# Altium integrated library BB Communication xDSL Interface.IntLib: 4 symbols
Pins are listed as number, name and electrical type; pins without a type are passive.

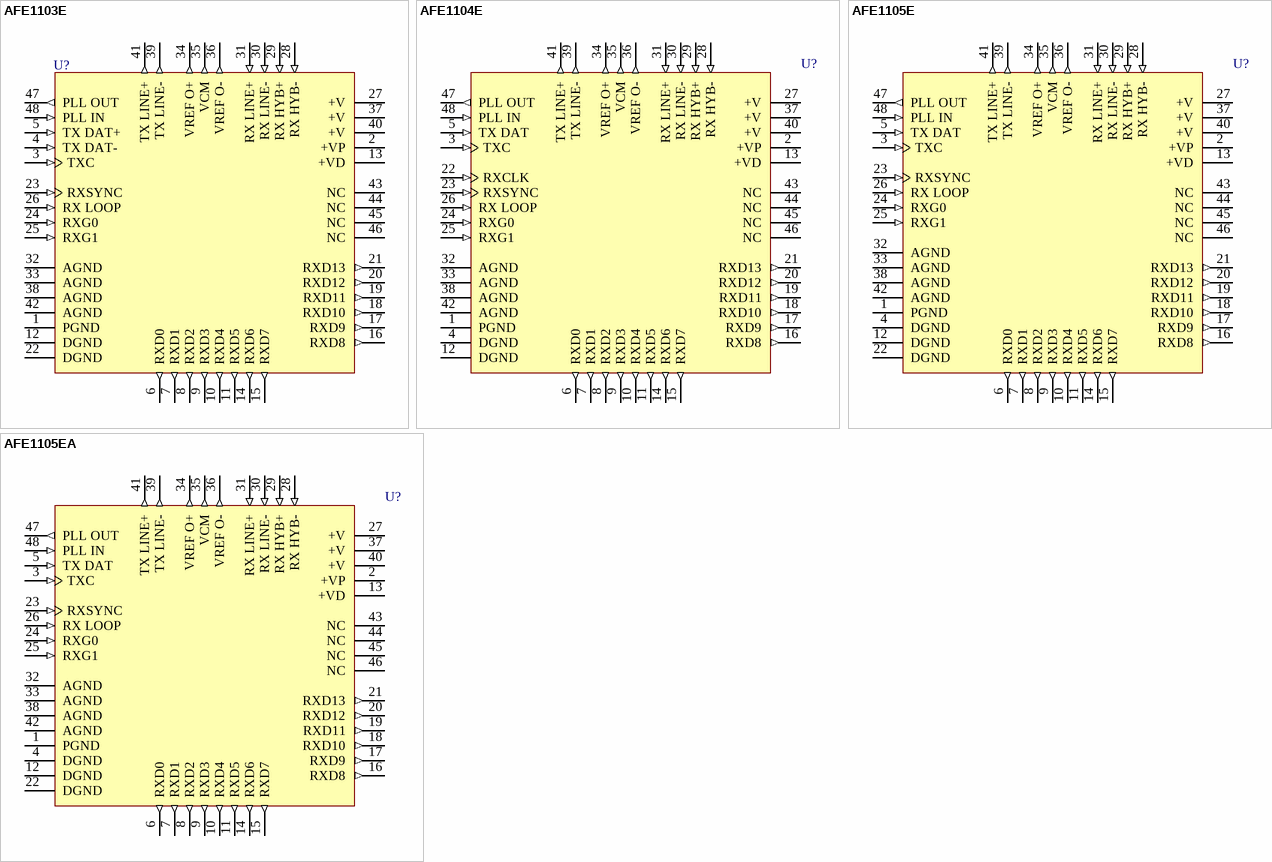
[diagram p0: symbols AFE1103E to AFE1105EA]

## AFE1103E
designator U?
HDSL/MDSL Analog Front End; Note: Pins 43 to 46 are No internal Connection (NC) pins and should be connected to ground; Published: 8-Jun-2000; LatestRevisionDate: 06-Jun-2005; LatestRevisionNote: Stylized 3D Model Added.; DatasheetVersion: Aug-1996; PackageReference: 333B; Publisher: Altium Limited; PackageDescription: SSOP; 48 Leads; Body Width 7.5 mm; Pitch 0.635 mm; Code_JEDEC: MO-118-AA; Code_IPC: SSO48; ComponentLink1Description: Manufacturer Link; ComponentLink1URL: http://www.ti.com/; ComponentLink2Description: Datasheet; ComponentLink2URL: http://www-s.ti.com/sc/ds/AFE1103.pdf
footprint 333B (SSOP; 48 Leads; Body Width 7.5 mm; Pitch 0.635 mm)
3D model 333B (SSOP; 48 Leads; Body Width 7.5 mm; Pitch 0.635 mm)
pins: 1 PGND (power), 2 +VP (power), 3 TXC (in), 4 TX DAT- (in), 5 TX DAT+ (in), 6 RXD0 (out), 7 RXD1 (out), 8 RXD2 (out), 9 RXD3 (out), 10 RXD4 (out), 11 RXD5 (out), 12 DGND (power), 13 +VD (power), 14 RXD6 (out), 15 RXD7 (out), 16 RXD8 (out), 17 RXD9 (out), 18 RXD10 (out), 19 RXD11 (out), 20 RXD12 (out), 21 RXD13 (out), 22 DGND (power), 23 RXSYNC (in), 24 RXG0 (in), 25 RXG1 (in), 26 RX LOOP (in), 27 +V (power), 28 RX HYB- (in), 29 RX HYB+ (in), 30 RX LINE- (in), 31 RX LINE+ (in), 32 AGND (power), 33 AGND (power), 34 VREF O+ (out), 35 VCM (out), 36 VREF O- (out), 37 +V (power), 38 AGND (power), 39 TX LINE- (out), 40 +V (power), 41 TX LINE+ (out), 42 AGND (power), 43 NC, 44 NC, 45 NC, 46 NC, 47 PLL OUT (out), 48 PLL IN (in)

## AFE1104E
designator U?
HDSL/MDSL Analog Front End; Note: Pins 43 to 46 are No internal Connection (NC) pins and should be connected to ground; Published: 8-Jun-2000; LatestRevisionDate: 06-Jun-2005; LatestRevisionNote: Stylized 3D Model Added.; DatasheetVersion: Aug-1996; PackageReference: 333B; Publisher: Altium Limited; PackageDescription: SSOP; 48 Leads; Body Width 7.5 mm; Pitch 0.635 mm; Code_JEDEC: MO-118-AA; Code_IPC: SSO48; ComponentLink1Description: Manufacturer Link; ComponentLink1URL: http://www.ti.com/; ComponentLink2Description: Datasheet; ComponentLink2URL: http://www-s.ti.com/sc/ds/AFE1104.pdf
footprint 333B (SSOP; 48 Leads; Body Width 7.5 mm; Pitch 0.635 mm)
3D model 333B (SSOP; 48 Leads; Body Width 7.5 mm; Pitch 0.635 mm)
pins: 1 PGND (power), 2 +VP (power), 3 TXC (in), 4 DGND (power), 5 TX DAT (in), 6 RXD0 (out), 7 RXD1 (out), 8 RXD2 (out), 9 RXD3 (out), 10 RXD4 (out), 11 RXD5 (out), 12 DGND (power), 13 +VD (power), 14 RXD6 (out), 15 RXD7 (out), 16 RXD8 (out), 17 RXD9 (out), 18 RXD10 (out), 19 RXD11 (out), 20 RXD12 (out), 21 RXD13 (out), 22 RXCLK (in), 23 RXSYNC (in), 24 RXG0 (in), 25 RXG1 (in), 26 RX LOOP (in), 27 +V (power), 28 RX HYB- (in), 29 RX HYB+ (in), 30 RX LINE- (in), 31 RX LINE+ (in), 32 AGND (power), 33 AGND (power), 34 VREF O+ (out), 35 VCM (out), 36 VREF O- (out), 37 +V (power), 38 AGND (power), 39 TX LINE- (out), 40 +V (power), 41 TX LINE+ (out), 42 AGND (power), 43 NC, 44 NC, 45 NC, 46 NC, 47 PLL OUT (out), 48 PLL IN (in)

## AFE1105E
designator U?
HDSL/MDSL Analog Front End; Note: Pins 43 to 46 are No internal Connection (NC) pins and should be connected to ground; Published: 8-Jun-2000; LatestRevisionDate: 06-Jun-2005; LatestRevisionNote: Stylized 3D Model Added.; DatasheetVersion: Sep-1996; PackageReference: 333B; Publisher: Altium Limited; PackageDescription: SSOP; 48 Leads; Body Width 7.5 mm; Pitch 0.635 mm; Code_JEDEC: MO-118-AA; Code_IPC: SSO48; ComponentLink1Description: Manufacturer Link; ComponentLink1URL: http://www.ti.com/; ComponentLink2Description: Datasheet; ComponentLink2URL: http://www-s.ti.com/sc/ds/AFE1105.pdf
footprint 333B (SSOP; 48 Leads; Body Width 7.5 mm; Pitch 0.635 mm)
3D model 333B (SSOP; 48 Leads; Body Width 7.5 mm; Pitch 0.635 mm)
pins: 1 PGND (power), 2 +VP (power), 3 TXC (in), 4 DGND (power), 5 TX DAT (in), 6 RXD0 (out), 7 RXD1 (out), 8 RXD2 (out), 9 RXD3 (out), 10 RXD4 (out), 11 RXD5 (out), 12 DGND (power), 13 +VD (power), 14 RXD6 (out), 15 RXD7 (out), 16 RXD8 (out), 17 RXD9 (out), 18 RXD10 (out), 19 RXD11 (out), 20 RXD12 (out), 21 RXD13 (out), 22 DGND (power), 23 RXSYNC (in), 24 RXG0 (in), 25 RXG1 (in), 26 RX LOOP (in), 27 +V (power), 28 RX HYB- (in), 29 RX HYB+ (in), 30 RX LINE- (in), 31 RX LINE+ (in), 32 AGND (power), 33 AGND (power), 34 VREF O+ (out), 35 VCM (out), 36 VREF O- (out), 37 +V (power), 38 AGND (power), 39 TX LINE- (out), 40 +V (power), 41 TX LINE+ (out), 42 AGND (power), 43 NC, 44 NC, 45 NC, 46 NC, 47 PLL OUT (out), 48 PLL IN (in)

## AFE1105EA
designator U?
HDSL/MDSL Analog Front End; Note: Pins 43 to 46 are No internal Connection (NC) pins and should be connected to ground; Published: 8-Jun-2000; LatestRevisionDate: 06-Jun-2005; LatestRevisionNote: Stylized 3D Model Added.; DatasheetVersion: Sep-1996; PackageReference: 333B; Publisher: Altium Limited; PackageDescription: SSOP; 48 Leads; Body Width 7.5 mm; Pitch 0.635 mm; Code_JEDEC: MO-118-AA; Code_IPC: SSO48; ComponentLink1Description: Manufacturer Link; ComponentLink1URL: http://www.ti.com/; ComponentLink2Description: Datasheet; ComponentLink2URL: http://www-s.ti.com/sc/ds/AFE1105.pdf
footprint 333B (SSOP; 48 Leads; Body Width 7.5 mm; Pitch 0.635 mm)
3D model 333B (SSOP; 48 Leads; Body Width 7.5 mm; Pitch 0.635 mm)
pins: 1 PGND (power), 2 +VP (power), 3 TXC (in), 4 DGND (power), 5 TX DAT (in), 6 RXD0 (out), 7 RXD1 (out), 8 RXD2 (out), 9 RXD3 (out), 10 RXD4 (out), 11 RXD5 (out), 12 DGND (power), 13 +VD (power), 14 RXD6 (out), 15 RXD7 (out), 16 RXD8 (out), 17 RXD9 (out), 18 RXD10 (out), 19 RXD11 (out), 20 RXD12 (out), 21 RXD13 (out), 22 DGND (power), 23 RXSYNC (in), 24 RXG0 (in), 25 RXG1 (in), 26 RX LOOP (in), 27 +V (power), 28 RX HYB- (in), 29 RX HYB+ (in), 30 RX LINE- (in), 31 RX LINE+ (in), 32 AGND (power), 33 AGND (power), 34 VREF O+ (out), 35 VCM (out), 36 VREF O- (out), 37 +V (power), 38 AGND (power), 39 TX LINE- (out), 40 +V (power), 41 TX LINE+ (out), 42 AGND (power), 43 NC, 44 NC, 45 NC, 46 NC, 47 PLL OUT (out), 48 PLL IN (in)